# EAGLE library part S2G5_JUMP (library #PaJa_konektory)
Radove konektory - koliky - dvojite - 2x5
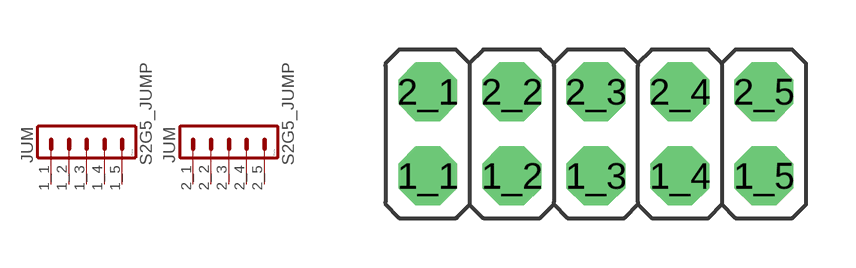
[diagram p28: symbol with the pads of S2G5_JUM; footprint S2G5_JUM]

Designator prefix JUM; gates 1=S1G5 2=S1G5

## S2G5_JUMP  [S2G5_JUM]
1_1  1:1  pas
1_2  1:2  pas
1_3  1:3  pas
1_4  1:4  pas
1_5  1:5  pas
2_1  2:1  pas
2_2  2:2  pas
2_3  2:3  pas
2_4  2:4  pas
2_5  2:5  pas

## Footprint S2G5_JUM (pad centres in mm)
drill 1.016 pad 1.778 octagon: 1_1 -5.08,-1.27; 1_2 -2.54,-1.27; 1_3 0,-1.27; 1_4 2.54,-1.27; 1_5 5.08,-1.27; 2_1 -5.08,1.27; 2_2 -2.54,1.27; 2_3 0,1.27; 2_4 2.54,1.27; 2_5 5.08,1.27